# Altium schematic symbol library Sheet1_lib.SchLib: 44 symbols
Pins are listed as number, name and electrical type; pins without a type are passive.

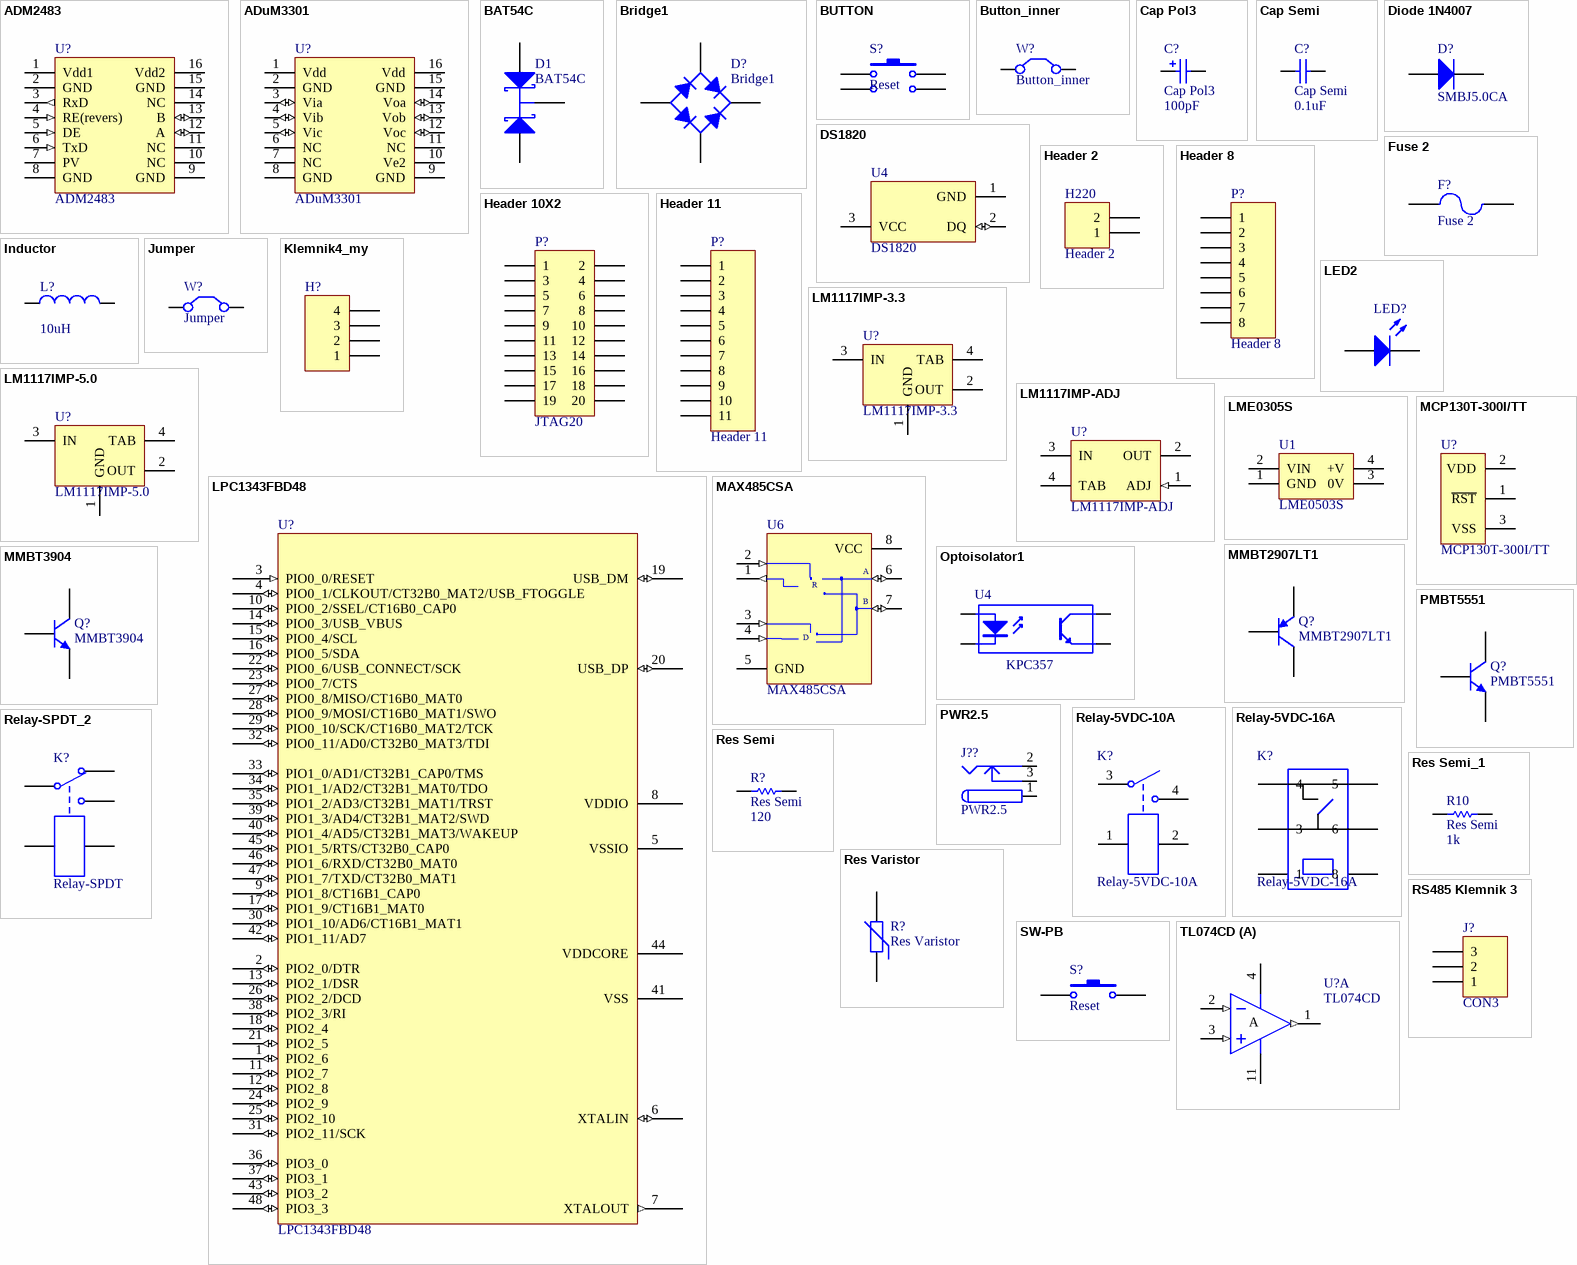
[diagram p0: symbols ADM2483 to TL074CD]

## ADM2483
designator U?
isolated rs-485 driver; Published: 24-Aug-2001; LatestRevisionDate: 13-Apr-2006; LatestRevisionNote: IPC-7351 Footprint Added.; DatasheetVersion: Nov-1997; PackageVersion: May-1998; PackageReference: SO16; Publisher: Altium Limited; PackageDescription: 16-Pin Small Outline Integrated Circuit 1.27 mm Pitch; Code_IPC: SOIC127P600-16; ComponentLink1Description: Manufacturer Link; ComponentLink1URL: http://www.st.com/; ComponentLink2Description: Datasheet; ComponentLink2URL: http://www.st.com/stonline/products/literature/ds/2160/lm346.pdf
footprint SO16_N (SOIC, 16-Leads, Body 9.9x3.9mm, Pitch 1.27mm, IPC Medium Density)
footprint SO16_L (SOIC, 16-Leads, Body 9.9x3.9mm, Pitch 1.27mm, IPC High Density)
footprint SO16_M (SOIC, 16-Leads, Body 9.9x3.9mm, Pitch 1.27mm, IPC Low Density)
3D model SO16 (16-Pin Small Outline Integrated Circuit 1.27 mm Pitch)
pins: 1 Vdd1 (power), 2 GND (power), 3 RxD (out), 4 RE(revers) (in), 5 DE (in), 6 TxD (in), 7 PV, 8 GND (power), 9 GND (power), 10 NC, 11 NC, 12 A (io), 13 B (io), 14 NC, 15 GND (power), 16 Vdd2 (power)

## ADuM3301
designator U?
Programmable Quad Bipolar Operational Amplifier; Published: 24-Aug-2001; LatestRevisionDate: 13-Apr-2006; LatestRevisionNote: IPC-7351 Footprint Added.; DatasheetVersion: Nov-1997; PackageVersion: May-1998; PackageReference: SO16; Publisher: Altium Limited; PackageDescription: 16-Pin Small Outline Integrated Circuit 1.27 mm Pitch; Code_IPC: SOIC127P600-16; ComponentLink1Description: Manufacturer Link; ComponentLink1URL: http://www.st.com/; ComponentLink2Description: Datasheet; ComponentLink2URL: http://www.st.com/stonline/products/literature/ds/2160/lm346.pdf
footprint SO16_N (SOIC, 16-Leads, Body 9.9x3.9mm, Pitch 1.27mm, IPC Medium Density)
footprint SO16_L (SOIC, 16-Leads, Body 9.9x3.9mm, Pitch 1.27mm, IPC High Density)
footprint SO16_M (SOIC, 16-Leads, Body 9.9x3.9mm, Pitch 1.27mm, IPC Low Density)
3D model SO16 (16-Pin Small Outline Integrated Circuit 1.27 mm Pitch)
pins: 1 Vdd (power), 2 GND (power), 3 Via (io), 4 Vib (io), 5 Vic (io), 6 NC, 7 NC, 8 GND (power), 9 GND (power), 10 Ve2 (power), 11 NC, 12 Voc (io), 13 Vob (io), 14 Voa (io), 15 GND (power), 16 Vdd (power)

## BAT54C
designator D1
Schottky Barrier Double Diode; Published: 17-Sep-2003; LatestRevisionDate: 12-Dec-2006; LatestRevisionNote: IPC-7351 Footprint Added.; DatasheetVersion: 4-Mar-2002; PackageVersion: May-1999; PackageReference: SOT23; Publisher: Altium Limited; PackageDescription: 3-Pin SOT-23 Package 0.95 mm Pitch, 2.3 mm Lead Span; ComponentLink1Description: Manufacturer Link; ComponentLink1URL: http://www.semiconductors.philips.com/; ComponentLink2Description: Datasheet; ComponentLink2URL: http://www.semiconductors.philips.com/acrobat/datasheets/BAT54_SERIES_4.pdf
footprint SOT23_M (SOT23, 3-Leads, Body 2.9x1.3mm, Pitch 0.95mm, Lead Span 2.3mm, IPC Low Density)
footprint SOT23_L (SOT23, 3-Leads, Body 2.9x1.3mm, Pitch 0.95mm, Lead Span 2.3mm, IPC High Density)
footprint SOT23_M (SOT23, 3-Leads, Body 2.9x1.3mm, Pitch 0.95mm, Lead Span 2.3mm, IPC Low Density)
simulation model BAT54C (SUBCKT)
signal-integrity model BAT54C
pins: 1 A1, 2 A2, 3 K

## Bridge1
designator D?
Full Wave Diode Bridge; Published: 8-Jun-2000; LatestRevisionDate: 29-May-2009; LatestRevisionNote: Sch pins A & K swapped.; DatasheetVersion: E2732B; PackageReference: D-38; Publisher: Altium Limited
footprint DB-1S (Bridge Rectifier; 4 Terminals;)
simulation model BRIDGE (Spice Subcircuit)
pins: 1 K, 2 C, 3 A, 4 C

## BUTTON
designator S?, comment Reset
DTSGL-61M; Published: 24-Mar-1999; LatestRevisionDate: 17-Jul-2002; LatestRevisionNote: Re-released for DXP Platform.; PackageReference: SPST-2; Publisher: Altium Limited; MODEL: DTSGL-61M
footprint BUTTON (DTSGL-61M)
pins: 1, 2, 3, 4

## Button_inner
designator W?
Power Button; Published: 24-Mar-1999; LatestRevisionDate: 17-Jul-2002; LatestRevisionNote: Re-released for DXP Platform.; PackageReference: RAD-0.2; Publisher: Altium Limited
footprint HDR1X2 (Connector; Header; 2 Position)
pins: 1 C1, 2 C2

## Cap Pol3
designator C?  value 100pF
Polarized Capacitor (Surface Mount); Published: 8-Jun-2000; LatestRevisionDate: 29-May-2009; LatestRevisionNote: IPC-7351 Footprint Added.; PackageReference: C0805; Publisher: Altium Limited; PackageDescription: Chip Capacitor
footprint CAPC2012L (Chip Capacitor, Body 2.0x1.3mm, IPC High Density)
footprint CAPC4532L (Chip Capacitor, Body 4.5x3.2mm, IPC High Density)
footprint CAPC4564L (Chip Capacitor, Body 4.5x6.4mm, IPC High Density)
footprint CAPC5764L (Chip Capacitor, Body 5.7x6.4mm, IPC High Density)
footprint CAPC5750L (Chip Capacitor, Body 5.7x5.0mm, IPC High Density)
simulation model CAP (Capacitor)
signal-integrity model Cap Pol
pins: 1, 2
1 alternate drawing of the same symbol

## Cap Semi
designator C?  value 0.1uF
Capacitor (Semiconductor SIM Model); Published: 8-Jun-2000; LatestRevisionDate: 29-May-2009; LatestRevisionNote: IPC-7351 Footprint Added.; PackageReference: C1206; Publisher: Altium Limited; PackageDescription: Chip Capacitor
footprint CAPC3216L (Chip Capacitor, Body 3.2x1.6mm, IPC High Density)
footprint CAPC1005L (Chip Capacitor, Body 1.0x0.5mm, IPC High Density)
footprint CAPC2512L (Chip Capacitor, Body 2.54x1.27mm, IPC High Density)
footprint CAPC2012M (Chip Capacitor, Body 2.0x1.3mm, IPC Low Density)
footprint CAPC3225L (Chip Capacitor, Body 3.2x2.5mm, IPC High Density)
simulation model CAP (Semiconductor Capacitor)
signal-integrity model Cap Semi
pins: 1, 2

## Diode 1N4007
designator D?, comment SMBJ5.0CA
1 Amp General Purpose Rectifier; Published: 8-Jun-2000; LatestRevisionDate: 17-Jul-2002; LatestRevisionNote: Re-released for DXP Platform.; DatasheetDocument: 1998; PackageDocument: Aug-1999; PackageReference: DO-41; Publisher: Altium Limited; Code_JEDEC: DO-204-AL; ComponentLink1Description: Manufacturer Link; ComponentLink1URL: http://www.fairchildsemi.com/; ComponentLink2Description: Datasheet; ComponentLink2URL: http://www.fairchildsemi.com/ds/1N%2F1N4001.pdf
footprint SMB (DO-214-AA/SMB; 2 C-Bend Leads; Body 5.3 x 3.6 mm, inc. leads (LxW))
simulation model 1N4007 (DIODE)
signal-integrity model 1N4007
pins: 1 A, 2 K

## DS1820
designator U4
1-Wire Digital Thermometer; ComponentAvailability: Obsolete; Published: 13-Oct-2000; LatestRevisionDate: 17-Jul-2002; LatestRevisionNote: Re-released for DXP Platform.; DatasheetVersion: 5-Mar-1998; PackageVersion: 1999; PackageReference: PR35; Publisher: Altium Limited; PackageDescription: TO, Flat Index; 3 In-Line, Axial Leads; Body Dia. 4.6mm; Leads 0.56 x 0.51 mm (max); ComponentLink1Description: Manufacturer Link; ComponentLink1URL: http://www.maxim-ic.com/; ComponentLink2Description: Datasheet; ComponentLink2URL: http://pdfserv.maxim-ic.com/en/ds/DS1820-DS1820S.pdf; ComponentLink3Description: Discontinuation Notice; ComponentLink3URL: http://www.maxim-ic.com/qa/pdfs/non-obsolescence-letter.pdf
footprint PR35 (TO, Flat Index; 3 In-Line, Axial Leads; Body Dia. 4.6mm; Leads 0.56 x 0.51 mm (max))
pins: 1 GND (power), 2 DQ (io), 3 VCC (power)

## Fuse 2
designator F?
Fuse; Published: 8-Jun-2000; LatestRevisionDate: 17-Jul-2002; LatestRevisionNote: Re-released for DXP Platform.; PackageReference: PIN-W2/E2.8; Publisher: Altium Limited
footprint CD4532-1812 (Chip Diode; Body 4.5 x 3.2 mm (LxW typ))
simulation model FUSE (Spice Subcircuit)
pins: 1, 2

## Header 2
designator H220
Header, 2-Pin; LatestRevisionDate: 17-Jul-2002; LatestRevisionNote: Re-released for DXP Platform.; Publisher: Altium Limited
footprint Klemnik2_5mm (Connector; Header; 2 Position)
signal-integrity model Connector
pins: 1, 2

## Header 8
designator P?
Header, 8-Pin; LatestRevisionDate: 17-Jul-2002; LatestRevisionNote: Re-released for DXP Platform.; Publisher: Altium Limited
footprint HDR1X8 (Connector; Header; 8 Position)
signal-integrity model Connector
pins: 1, 2, 3, 4, 5, 6, 7, 8

## Header 10X2
designator P?, comment JTAG20
Header, 10-Pin, Dual row; LatestRevisionDate: 17-Jul-2002; LatestRevisionNote: Re-released for DXP Platform.; Publisher: Altium Limited
footprint HDR2X10 (Connector; Header; 10x2 Position)
signal-integrity model Connector
pins: 1, 2, 3, 4, 5, 6, 7, 8, 9, 10, 11, 12, 13, 14, 15, 16, 17, 18, 19, 20

## Header 11
designator P?
Header, 11-Pin; LatestRevisionDate: 17-Jul-2002; LatestRevisionNote: Re-released for DXP Platform.; Publisher: Altium Limited
footprint HDR1X11 (Connector; Header; 11 Position)
signal-integrity model Connector
pins: 1, 2, 3, 4, 5, 6, 7, 8, 9, 10, 11

## Inductor
designator L?  value 10uH  (hidden comment: Inductor)
Code_IEC: 1005; Published: 8-Jun-2000; LatestRevisionDate: 17-Jul-2002; LatestRevisionNote: Re-released for DXP Platform.; PackageReference: 0402-A; Publisher: Altium Limited; Code_JEITA: 0402
footprint 0402-A (Chip Inductor; Body 1 x 0.5 mm (LxW typ))
footprint INDC1608N (Chip Inductor, Body 1.6x0.8mm, IPC Medium Density)
footprint 2012_Chip (2012 Chip; Chip Inductor; Body 2.0 x 1.2 mm (LxW typ))
footprint 2029 (Chip Inductor; Body 2 x 1.2 mm (LxW typ))
footprint 3261 (3216 Chip; Chip Inductor; Body 3.2 x 1.6 mm (LxW typ))
footprint 4564_Chip (4564 Chip; Chip Inductor; Body 4.5 x 6.4 mm (LxW typ))
simulation model INDUCTOR (Inductor)
signal-integrity model Inductor
footprint INDC4532M (Chip Inductor, Body 4.5x3.2mm, IPC Low Density)
footprint INDC4532M (Chip Inductor, Body 4.5x3.2mm, IPC Low Density)
pins: 1, 2

## Jumper
designator W?
Jumper Wire; Published: 24-Mar-1999; LatestRevisionDate: 17-Jul-2002; LatestRevisionNote: Re-released for DXP Platform.; PackageReference: RAD-0.2; Publisher: Altium Limited
footprint HDR1X2 (Connector; Header; 2 Position)
pins: 1 C1, 2 C2

## Klemnik4_my
designator H?
Header, 4-Pin, 300-041-12; LatestRevisionDate: 17-Jul-2002; LatestRevisionNote: Re-released for DXP Platform.; Publisher: Altium Limited
footprint Klemnik4_5mm (Connector; Header; 8 Position)
signal-integrity model Connector
pins: 1, 2, 3, 4

## LED2
designator LED?
Typical RED, GREEN, YELLOW, AMBER GaAs LED; Published: 8-Jun-2000; LatestRevisionDate: 17-Jul-2002; LatestRevisionNote: Re-released for DXP Platform.; PackageVersion: Feb-2002; PackageReference: 3.2X1.6X1.1; Publisher: Altium Limited
footprint CD3216-1206 (Chip Diode; Body 3.2 x 1.6 mm (LxW typ))
simulation model LED2 (Diode)
pins: 1 A, 2 K

## LM1117IMP-3.3
designator U?
800mA Low-Dropout Linear Regulator; Manufacturer: National Semiconductor; CompType: LDO IC; PackageTopMarking: XYTT*N05B; PowerWise: N; Published: 4-Dec-2008; DatasheetVersion: Apr-2006; PackageVersion: revB, Apr-2003; PackageReference: MP04A; Publisher: Altium Limited; PackageDescription: Molded SOT-223, 6.50 x 3.56 x 1.6mm Body, 4 Lead, 2.3mm Pitch; PartNumber: LM1117IMP-3.3; RoHS: O; PinCount: 4; DigiKeyPartNumber: LM1117IMP-3.3CT-ND; Code_JEDEC: TO-261-AA; Code_IPC: SOT223-4; ComponentLink1Description: LM1117 Datasheet; ComponentLink1URL: http://www.national.com/ds/LM/LM1117.pdf; ComponentLink2Description: LM1117 Web Page; ComponentLink2URL: http://www.national.com/pf/LM/LM1117.html; ComponentLink3Description: MP04A Package Page; ComponentLink3URL: http://www.national.com/packaging/folders/mp04a.html
footprint MP04A_N (SOT223, 4-Leads, Body 6.5x3.5mm, Pitch 2.3mm, Lead Span 7mm, IPC Medium Density)
footprint MP04A_L (SOT223, 4-Leads, Body 6.5x3.5mm, Pitch 2.3mm, Lead Span 7mm, IPC High Density)
footprint MP04A_M (SOT223, 4-Leads, Body 6.5x3.5mm, Pitch 2.3mm, Lead Span 7mm, IPC Low Density)
pins: 1 GND (power), 2 OUT (power), 3 IN (power), 4 TAB (power)

## LM1117IMP-5.0
designator U?
800mA Low-Dropout Linear Regulator; Manufacturer: National Semiconductor; CompType: LDO IC; PackageTopMarking: XYTT*N06B; PowerWise: N; Published: 4-Dec-2008; DatasheetVersion: Apr-2006; PackageVersion: revB, Apr-2003; PackageReference: MP04A; Publisher: Altium Limited; PackageDescription: Molded SOT-223, 6.50 x 3.56 x 1.6mm Body, 4 Lead, 2.3mm Pitch; PartNumber: LM1117IMP-5.0; RoHS: O; PinCount: 4; DigiKeyPartNumber: LM1117IMP-5.0CT-ND; Code_JEDEC: TO-261-AA; Code_IPC: SOT223-4; ComponentLink1Description: LM1117 Datasheet; ComponentLink1URL: http://www.national.com/ds/LM/LM1117.pdf; ComponentLink2Description: LM1117 Web Page; ComponentLink2URL: http://www.national.com/pf/LM/LM1117.html; ComponentLink3Description: MP04A Package Page; ComponentLink3URL: http://www.national.com/packaging/folders/mp04a.html
footprint MP04A_N (SOT223, 4-Leads, Body 6.5x3.5mm, Pitch 2.3mm, Lead Span 7mm, IPC Medium Density)
footprint MP04A_L (SOT223, 4-Leads, Body 6.5x3.5mm, Pitch 2.3mm, Lead Span 7mm, IPC High Density)
footprint MP04A_M (SOT223, 4-Leads, Body 6.5x3.5mm, Pitch 2.3mm, Lead Span 7mm, IPC Low Density)
pins: 1 GND (power), 2 OUT (power), 3 IN (power), 4 TAB (power)

## LM1117IMP-ADJ
designator U?
800mA Low-Dropout Linear Regulator; Manufacturer: National Semiconductor; CompType: LDO IC; PackageTopMarking: XYTT*N03B; PowerWise: N; Published: 4-Dec-2008; DatasheetVersion: Apr-2006; PackageVersion: revB, Apr-2003; PackageReference: MP04A; Publisher: Altium Limited; PackageDescription: Molded SOT-223, 6.50 x 3.56 x 1.6mm Body, 4 Lead, 2.3mm Pitch; PartNumber: LM1117IMP-ADJ; RoHS: O; PinCount: 4; DigiKeyPartNumber: LM1117IMP-ADJCT-ND; Code_JEDEC: TO-261-AA; Code_IPC: SOT223-4; ComponentLink1Description: LM1117 Datasheet; ComponentLink1URL: http://www.national.com/ds/LM/LM1117.pdf; ComponentLink2Description: LM1117 Web Page; ComponentLink2URL: http://www.national.com/pf/LM/LM1117.html; ComponentLink3Description: MP04A Package Page; ComponentLink3URL: http://www.national.com/packaging/folders/mp04a.html
footprint MP04A_N (SOT223, 4-Leads, Body 6.5x3.5mm, Pitch 2.3mm, Lead Span 7mm, IPC Medium Density)
footprint MP04A_L (SOT223, 4-Leads, Body 6.5x3.5mm, Pitch 2.3mm, Lead Span 7mm, IPC High Density)
footprint MP04A_M (SOT223, 4-Leads, Body 6.5x3.5mm, Pitch 2.3mm, Lead Span 7mm, IPC Low Density)
pins: 1 ADJ (in), 2 OUT (power), 3 IN (power), 4 TAB (power)

## LME0305S
designator U1, comment LME0503S
Isolated 250mW Single Output; Published: 8-Jun-2000; LatestRevisionDate: 17-Jul-2002; LatestRevisionNote: Re-released for DXP Platform.; DatasheetVersion: Jul-1996; PackageVersion: 1996; PackageReference: NPSIP4; Publisher: Altium Limited; PackageDescription: SIP; 4 Leads; Body 10 x 11.5 x 6 mm (typ); Pitch 2.54 mm; ComponentLink1Description: Manufacturer Link; ComponentLink1URL: http://www.dc-dc.com/; ComponentLink2Description: Datasheet; ComponentLink2URL: http://www.cd4power.com/data/power/ncl/ndc_lme_4.pdf
footprint NPSIP4 (SIP; 4 Leads; Body 9.65 x 11.68x 6 mm (typ); Pitch 2.54 mm)
pins: 1 GND (power), 2 VIN (power), 3 0V (power), 4 +V (power)

## LPC1343FBD48
designator U?
ARM-based 32-bit MCU with 64 Kbytes Flash, 48-pin LQFP, Industrial Temperature; Published: 30-May-2008; DatasheetVersion: rev6, Mar-2008; PackageVersion: Mar-2008; PackageReference: LQFP48; Publisher: Altium Limited; PackageDescription: 48-Pin Low-Profile Quad Flat Pack, 7 x 7 mm Body, 0.5 mm Pitch (LQFP48); ComponentLink1Description: Manufacturer Link; ComponentLink1URL: www.st.com/stm32; ComponentLink2Description: Datasheet; ComponentLink2URL: http://www.st.com/stonline/products/literature/ds/13587.pdf
footprint LQFP48_L (Thin QFP, 48-Leads, Body 7x7mm, Pitch 0.5mm, IPC High Density)
footprint LQFP48_L (Thin QFP, 48-Leads, Body 7x7mm, Pitch 0.5mm, IPC High Density)
footprint LQFP48_L (Thin QFP, 48-Leads, Body 7x7mm, Pitch 0.5mm, IPC High Density)
footprint Model Name (Footprint not found)
pins: 1 PIO2_6 (io), 2 PIO2_0/DTR (io), 3 PIO0_0/RESET (in), 4 PIO0_1/CLKOUT/CT32B0_MAT2/USB_FTOGGLE (io), 5 VSSIO (power), 6 XTALIN (io), 7 XTALOUT (out), 8 VDDIO (power), 9 PIO1_8/CT16B1_CAP0 (io), 10 PIO0_2/SSEL/CT16B0_CAP0 (io), 11 PIO2_7 (io), 12 PIO2_8 (io), 13 PIO2_1/DSR (io), 14 PIO0_3/USB_VBUS (io), 15 PIO0_4/SCL (io), 16 PIO0_5/SDA (io), 17 PIO1_9/CT16B1_MAT0 (io), 18 PIO2_4 (io), 19 USB_DM (io), 20 USB_DP (io), 21 PIO2_5 (io), 22 PIO0_6/USB_CONNECT/SCK (io), 23 PIO0_7/CTS (io), 24 PIO2_9 (io), 25 PIO2_10 (io), 26 PIO2_2/DCD (io), 27 PIO0_8/MISO/CT16B0_MAT0 (io), 28 PIO0_9/MOSI/CT16B0_MAT1/SWO (io), 29 PIO0_10/SCK/CT16B0_MAT2/TCK (io), 30 PIO1_10/AD6/CT16B1_MAT1 (io), 31 PIO2_11/SCK (io), 32 PIO0_11/AD0/CT32B0_MAT3/TDI (io), 33 PIO1_0/AD1/CT32B1_CAP0/TMS (io), 34 PIO1_1/AD2/CT32B1_MAT0/TDO (io), 35 PIO1_2/AD3/CT32B1_MAT1/TRST (io), 36 PIO3_0 (io), 37 PIO3_1 (io), 38 PIO2_3/RI (io), 39 PIO1_3/AD4/CT32B1_MAT2/SWD (io), 40 PIO1_4/AD5/CT32B1_MAT3/WAKEUP (io), 41 VSS (power), 42 PIO1_11/AD7 (io), 43 PIO3_2 (io), 44 VDDCORE (power), 45 PIO1_5/RTS/CT32B0_CAP0 (io), 46 PIO1_6/RXD/CT32B0_MAT0 (io), 47 PIO1_7/TXD/CT32B0_MAT1 (io), 48 PIO3_3 (io)

## MAX485CSA
designator U6
Low-Power, Slew-Rate-Limited RS-485/RS-422 Transceiver; Published: 16-Jan-2001; LatestRevisionDate: 13-Apr-2006; LatestRevisionNote: IPC-7351 Footprint Added.; DatasheetVersion: Feb-1996; PackageReference: NSO8; Publisher: Altium Limited; PackageDescription: 8-Pin Small Outline Integrated Circuit 1.27 mm Pitch; Code_JEDEC: MS-012-AA; Code_IPC: SOIC127P600-8; ComponentLink1Description: Manufacturer Link; ComponentLink1URL: http://www.maxim-ic.com/; ComponentLink2Description: Datasheet; ComponentLink2URL: http://pdfserv.maxim-ic.com/en/ds/MAX1487-MAX491.pdf
footprint NSO8_N (SOIC, 8-Leads, Body 4.9x3.9mm, Pitch 1.27mm, IPC Medium Density)
footprint NSO8_L (SOIC, 8-Leads, Body 4.9x3.9mm, Pitch 1.27mm, IPC High Density)
footprint NSO8_M (SOIC, 8-Leads, Body 4.9x3.9mm, Pitch 1.27mm, IPC Low Density)
3D model NSO8 (8-Pin Small Outline Integrated Circuit 1.27 mm Pitch)
pins: 1 RO (out), 2 ~{RE} (in), 3 DE (in), 4 DI (in), 5 GND (power), 6 A (io), 7 B (io), 8 VCC (power)
text: R; D

## MCP130T-300I/TT
designator U?
Microcontroller Supervisory Circuit with Open Drain Output, 3-Pin SOT-23, Industrial Temperature, Tape and Reel; FirstPublished: 29-Jan-2009; DatasheetVersion: revD, 2001; PackageVersion: revBB, Aug-2009; PackageReference: SOT-23-TT3; Publisher: Altium Limited; PackageDescription: 3-Lead Plastic Small Outline Transistor (TT) [SOT-23]; Supplier 1: Digi-Key; Supplier Part Number 1: MCP130T-450I/TTTR-ND; Supplier 2: Digi-Key; Supplier Part Number 2: MCP130T-450I/TTCT-ND; Supplier 3: Digi-Key; Supplier Part Number 3: MCP130T-450I/TTDKR-ND; Supplier 4: Farnell; Supplier Part Number 4: 9758488; Supplier 5: Farnell; Supplier Part Number 5: 4882763; Supplier 6: Newark; Supplier Part Number 6: 19C7180; Code_IPC: SOT23-3; ComponentLink1Description: Datasheet; ComponentLink1URL: http://ww1.microchip.com/downloads/en/DeviceDoc/11184d.pdf; ComponentLink2Description: Packaging Specification; ComponentLink2URL: http://www.microchip.com/stellent/groups/techpub_sg/documents/packagingspec/en012702.pdf; ComponentLink3Description: Microchip.com Home; ComponentLink3URL: http://www.microchip.com/
footprint SOT-23-TT3_N (SOT23, 3-Leads, Body 2.9x1.3mm, Pitch 0.95mm, Lead Span 2.4mm, IPC Medium Density)
footprint SOT-23-TT3_L (SOT23, 3-Leads, Body 2.9x1.3mm, Pitch 0.95mm, Lead Span 2.4mm, IPC High Density)
footprint SOT-23-TT3_M (SOT23, 3-Leads, Body 2.9x1.3mm, Pitch 0.95mm, Lead Span 2.4mm, IPC Low Density)
pins: 1 ~{RST} (oc), 2 VDD (power), 3 VSS (power)

## MMBT2907LT1
designator Q?
General Purpose Transistor PNP Silicon; Published: 29-Sep-2000; LatestRevisionDate: 17-Jul-2002; LatestRevisionNote: Re-released for DXP Platform.; DatasheetVersion: 1996; PackageVersion: 1997; PackageReference: 318-08; Publisher: Altium Limited; PackageDescription: SOT-23; 3 Leads; Body 3.0 x 2.6 mm, inc. leads (LxW max); ComponentLink1Description: Manufacturer Link; ComponentLink1URL: http://www.onsemi.com/site/products/landing?taxonomyID=194
footprint SOT23_M (SOT23, 3-Leads, Body 2.9x1.3mm, Pitch 0.95mm, Lead Span 2.3mm, IPC Low Density)
simulation model MMBT2907LT1 (PNP)
signal-integrity model MMBT2907LT1
pins: 1 B, 2 E, 3 C

## MMBT3904
designator Q?
NPN Switching Transistor  PMBT5551; Published: 17-Sep-2003; LatestRevisionDate: 12-Dec-2006; LatestRevisionNote: IPC-7351 Footprint Added.; DatasheetVersion: 13-May-2002; PackageVersion: May-1999; PackageReference: SOT23; Publisher: Altium Limited; PackageDescription: 3-Pin SOT-23 Package 0.95 mm Pitch, 2.3 mm Lead Span; ComponentLink1Description: Manufacturer Link; ComponentLink1URL: http://www.semiconductors.philips.com/; ComponentLink2Description: Datasheet; ComponentLink2URL: http://www.semiconductors.philips.com/acrobat/datasheets/MMBT3904_4.pdf
footprint SOT23_N (SOT23, 3-Leads, Body 2.9x1.3mm, Pitch 0.95mm, Lead Span 2.3mm, IPC Medium Density)
footprint SOT23_L (SOT23, 3-Leads, Body 2.9x1.3mm, Pitch 0.95mm, Lead Span 2.3mm, IPC High Density)
footprint SOT23_M (SOT23, 3-Leads, Body 2.9x1.3mm, Pitch 0.95mm, Lead Span 2.3mm, IPC Low Density)
simulation model QMMBT3904 (NPN)
signal-integrity model MMBT3904
pins: 1 B, 2 E, 3 C

## Optoisolator1
designator U4, comment KPC357
4-Pin Phototransistor Optocoupler; Published: 24-Mar-1999; LatestRevisionDate: 04-Mar-2005; LatestRevisionNote: Sch pins 3 & 4 Swapped.; DatasheetVersion: Nov-2003; PackageReference: DIP-4; Publisher: Altium Limited
footprint Micro-Flat
pins: 1 A "Anode", 2 K "Cathode", 3 E "Emitter", 4 C "Collector"

## PMBT5551
designator Q?
NPN Switching Transistor; Published: 17-Sep-2003; LatestRevisionDate: 12-Dec-2006; LatestRevisionNote: IPC-7351 Footprint Added.; DatasheetVersion: 13-May-2002; PackageVersion: May-1999; PackageReference: SOT23; Publisher: Altium Limited; PackageDescription: 3-Pin SOT-23 Package 0.95 mm Pitch, 2.3 mm Lead Span; ComponentLink1Description: Manufacturer Link; ComponentLink1URL: http://www.semiconductors.philips.com/; ComponentLink2Description: Datasheet; ComponentLink2URL: http://www.semiconductors.philips.com/acrobat/datasheets/MMBT3904_4.pdf
footprint SOT23_N (SOT23, 3-Leads, Body 2.9x1.3mm, Pitch 0.95mm, Lead Span 2.3mm, IPC Medium Density)
footprint SOT23_M (SOT23, 3-Leads, Body 2.9x1.3mm, Pitch 0.95mm, Lead Span 2.3mm, IPC Low Density)
footprint SOT23_M (SOT23, 3-Leads, Body 2.9x1.3mm, Pitch 0.95mm, Lead Span 2.3mm, IPC Low Density)
simulation model QMMBT3904 (NPN)
signal-integrity model MMBT3904
pins: 1 B, 2 E, 3 C

## PWR2.5
designator J??
Low Voltage Power Supply Connector; Published: 17-Dec-2003; DatasheetDocument: 09-May-2002; Publisher: Altium Limited; ComponentLink1Description: Manufacturer Link; ComponentLink1URL: http://domino.kycon.com/internet/Products.html
footprint KLD-0202
signal-integrity model Connector
pins: 1 (power), 2 (power), 3 (power)

## Relay-5VDC-10A
designator K?
TRCF-5VDC-SB-A; Published: 24-Mar-1999; LatestRevisionDate: 17-Jul-2002; LatestRevisionNote: Re-released for DXP Platform.; PackageReference: MODULE5B; Publisher: Altium Limited; MODEL: TRCF-5VDC-SB-A
footprint TRCF-SB (DIP; 5 Round Pins; Row Space 15.24 mm; Pitch 5 mm)
simulation model SPDTRELAY (Spice Subcircuit)
pins: 1, 2, 3, 4

## Relay-5VDC-16A
designator K?
TRIH-5VDC-SD-1AE-R; Published: 24-Mar-1999; LatestRevisionDate: 17-Jul-2002; LatestRevisionNote: Re-released for DXP Platform.; PackageReference: MODULE5B; Publisher: Altium Limited; MODEL: TRIH-5VDC-SD-1AE-R
footprint TRIH-AE (DIP; 5 Round Pins; Row Space 15.24 mm; Pitch 5 mm)
simulation model SPDTRELAY (Spice Subcircuit)
pins: 1, 3, 4, 5, 6, 8

## Relay-SPDT_2
designator K?, comment Relay-SPDT
Single-Pole Dual-Throw Relay; Published: 24-Mar-1999; LatestRevisionDate: 17-Jul-2002; LatestRevisionNote: Re-released for DXP Platform.; PackageReference: MODULE5B; Publisher: Altium Limited
footprint DIP-P5/X1.65 (DIP; 5 Round Pins; Row Space 15.24 mm; Pitch 2.54 mm)
simulation model SPDTRELAY (Spice Subcircuit)
pins: 1, 2, 3, 4, 5

## Res Semi
designator R?  value 120
Semiconductor Resistor; Published: 8-Jun-2000; LatestRevisionDate: 17-Jul-2002; LatestRevisionNote: Re-released for DXP Platform.; PackageReference: AXIAL-0.5; Publisher: Altium Limited
footprint AXIAL-0.5 (Axial Device, Thru-Hole; 2 Leads; 0.5 in Pin Spacing)
footprint RESC1005L (Chip Resistor, Body 1.1x0.5mm, IPC High Density)
footprint RESC2012M (Chip Resistor, Body 2.0x1.3mm, IPC Low Density)
footprint RESC2012L (Chip Resistor, Body 2.0x1.3mm, IPC High Density)
footprint RESC3216L (Chip Resistor, Body 3.1x1.6mm, IPC High Density)
simulation model RES (Semiconductor Resistor)
signal-integrity model Res Semi
pins: 1, 2

## Res Semi_1
designator R10, comment Res Semi  value 1k
Semiconductor Resistor; Published: 8-Jun-2000; LatestRevisionDate: 17-Jul-2002; LatestRevisionNote: Re-released for DXP Platform.; PackageReference: AXIAL-0.5; Publisher: Altium Limited
footprint AXIAL-0.5 (Axial Device, Thru-Hole; 2 Leads; 0.5 in Pin Spacing)
footprint RESC1005L (Chip Resistor, Body 1.1x0.5mm, IPC High Density)
footprint RESC1608L (Chip Resistor, Body 1.6x0.8mm, IPC High Density)
footprint RESC2012L (Chip Resistor, Body 2.0x1.3mm, IPC High Density)
footprint RESC3216L (Chip Resistor, Body 3.1x1.6mm, IPC High Density)
simulation model RES (Semiconductor Resistor)
signal-integrity model Res Semi
pins: 1, 2

## Res Varistor
designator R?
Varistor (Voltage-Sensitive Resistor); Published: 24-Mar-1999; LatestRevisionDate: 29-May-2009; LatestRevisionNote: IPC-7351 Footprint Added.; PackageVersion: Mar-2003; PackageReference: 6-0805; Publisher: Altium Limited; PackageDescription: Chip Resistor 0805 Case Size; Code_IPC: RESC2012
footprint RESC3216L (Chip Resistor, Body 3.1x1.6mm, IPC High Density)
footprint RESC2012L (Chip Resistor, Body 2.0x1.2mm, IPC High Density)
footprint RESC2012M (Chip Resistor, Body 2.0x1.2mm, IPC Low Density)
pins: 1, 2

## RS485 Klemnik 3
designator J?, comment CON3
Header, 3-Pin; LatestRevisionDate: 17-Jul-2002; LatestRevisionNote: Re-released for DXP Platform.; Publisher: Altium Limited
footprint Klemnik3_5mm (Connector; Header; 3 Position)
signal-integrity model Connector
pins: 1, 2, 3

## SW-PB
designator S?, comment Reset
DTSGL-61M; Published: 24-Mar-1999; LatestRevisionDate: 17-Jul-2002; LatestRevisionNote: Re-released for DXP Platform.; PackageReference: SPST-2; Publisher: Altium Limited; MODEL: DTSGL-61M
footprint SPST-2 (Switch; 2 Leads)
pins: 1, 2

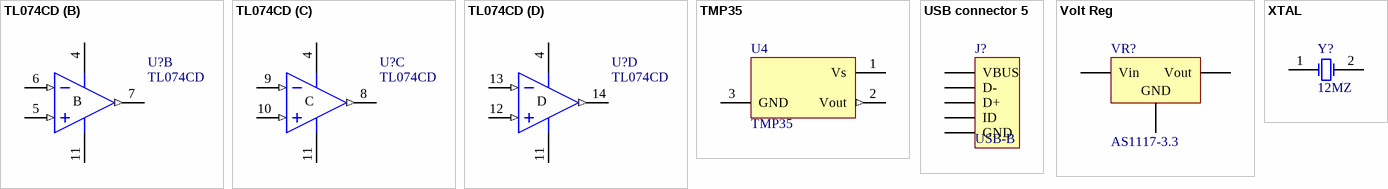
[diagram p1: symbols TL074CD to XTAL]

## TL074CD
designator U?
Low-Noise J-FET Quad Operational Amplifier; Published: 24-Aug-2001; LatestRevisionDate: 13-Apr-2006; LatestRevisionNote: IPC-7351 Footprint Added.; DatasheetVersion: Dec-1998; PackageVersion: Sep-1998; PackageReference: SO14; Publisher: Altium Limited; PackageDescription: 14-Pin Small Outline Integrated Circuit 1.27 mm Pitch; Code_IPC: SOIC127P600-14; ComponentLink1Description: Manufacturer Link; ComponentLink1URL: http://www.st.com/; ComponentLink2Description: Datasheet; ComponentLink2URL: http://www.st.com/stonline/products/literature/ds/2297/tl074.pdf
footprint SO14_M (SOIC, 14-Leads, Body 8.7x3.9mm, Pitch 1.27mm, IPC Low Density)
footprint SO14_L (SOIC, 14-Leads, Body 8.7x3.9mm, Pitch 1.27mm, IPC High Density)
footprint SO14_M (SOIC, 14-Leads, Body 8.7x3.9mm, Pitch 1.27mm, IPC Low Density)
3D model SO14 (14-Pin Small Outline Integrated Circuit 1.27 mm Pitch)
simulation model TL074 (SUBCKT)
pins on every part: 4 V+ (power), 11 V- (power)
part A pins: 1 OUT (out), 2 IN- (in), 3 IN+ (in)
part B pins: 5 IN+ (in), 6 IN- (in), 7 OUT (out)
part C pins: 8 OUT (out), 9 IN- (in), 10 IN+ (in)
part D pins: 12 IN+ (in), 13 IN- (in), 14 OUT (out)
part A text: A
part B text: B
part C text: C
part D text: D

## TMP35
designator U4
ComponentAvailability: Obsolete; Published: 13-Oct-2000; LatestRevisionDate: 17-Jul-2002; LatestRevisionNote: Re-released for DXP Platform.; DatasheetVersion: 5-Mar-1998; PackageVersion: 1999; PackageReference: PR35; Publisher: Altium Limited; PackageDescription: TO, Flat Index; 3 In-Line, Axial Leads; Body Dia. 4.6mm; Leads 0.56 x 0.51 mm (max); ComponentLink1Description: Manufacturer Link; ComponentLink1URL: http://www.maxim-ic.com/; ComponentLink2Description: Datasheet; ComponentLink2URL: http://pdfserv.maxim-ic.com/en/ds/DS1820-DS1820S.pdf; ComponentLink3Description: Discontinuation Notice; ComponentLink3URL: http://www.maxim-ic.com/qa/pdfs/non-obsolescence-letter.pdf
footprint PR35 (TO, Flat Index; 3 In-Line, Axial Leads; Body Dia. 4.6mm; Leads 0.56 x 0.51 mm (max))
pins: 1 Vs (power), 2 Vout (out), 3 GND (power)

## USB connector 5
designator J?, comment USB-B
USB connector, 5-Pin; LatestRevisionDate: 17-Jul-2002; LatestRevisionNote: Re-released for DXP Platform.; Publisher: Altium Limited
footprint MINI USB (Connector; USB2.0, Type A, SM; 5 Position; Right Angle)
signal-integrity model Connector
pins: 1 VBUS, 2 D-, 3 D+, 4 ID, 5 GND

## Volt Reg
designator VR?, comment AS1117-3.3
Voltage Regulator; Published: 24-Mar-1999; LatestRevisionDate: 17-Jul-2002; LatestRevisionNote: Re-released for DXP Platform.; PackageReference: D2PAK; Publisher: Altium Limited; Code_JEDEC: SMD-220
footprint D2PAK (D2-PAK/TO-263-AB; 3 Leads (1 Cropped); Body 15.5 (inc. leads) x 10.5 mm (LxW max))
footprint TO254P1510-3_4N (D2-PAK, 4-Leads, Body 8.8x10.4mm, Pitch 2.54mm, Lead Span 15.1mm, IPC Medium Density)
pins: 1 Vin, 2 GND, 3 Vout

## XTAL
designator Y?, comment 12MZ
Crystal Oscillator; Published: 8-Jun-2000; LatestRevisionDate: 17-Jul-2002; LatestRevisionNote: Re-released for DXP Platform.; PackageReference: R38; Publisher: Altium Limited
footprint HC-49SM (Quartz Crystal,)
simulation model XTAL (Spice Subcircuit)
pins: 1 OSC1, 2 OSC2